# Altium footprint library SnapEDApcb.PcbLib: 1 footprints
Each footprint in its own frame and in the unit in brackets; x right, y up, seen from the top. Pads: shape width x height; smd on the part's side, far side on the other; paste and mask are expansions set on the pad; w line width, h text height; cw(c..) or ccw(c..) is an arc to the next point about the centre after c.
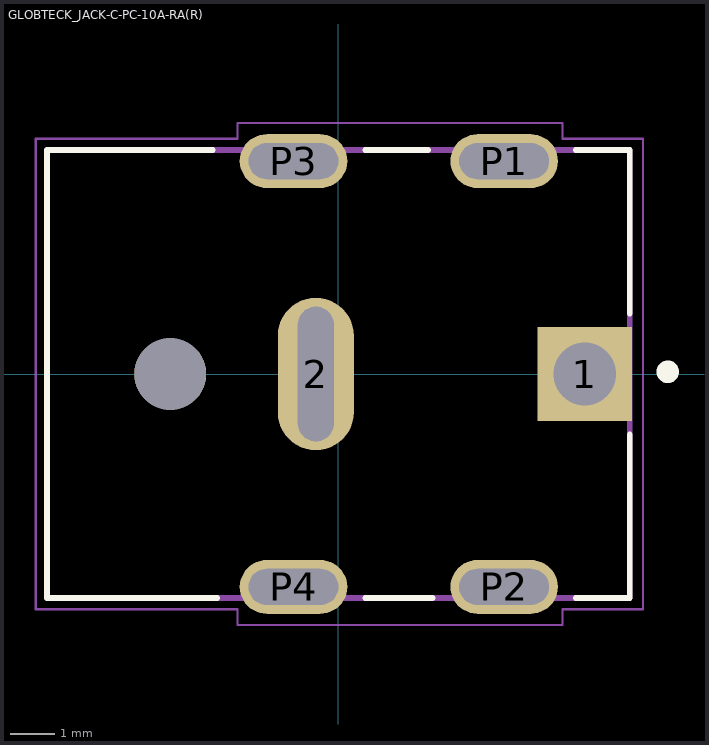
[diagram p0: the footprint, top view; thin cyan lines are the x and y axes]

## GLOBTECK_JACK-C-PC-10A-RA(R) [mm]
pads (7):
  rect 2.1x2.1 hole 1.4: 1(5.5,0)
  oval 1.7x3.4 hole 0.8 slot 3 at 90 deg: 2(-0.5,0)
  oval 2.4x1.2 hole 0.8 slot 2 at 0 deg: P1(3.7,4.75) P2(3.7,-4.75) P3(-1,4.75) P4(-1,-4.75)
  round 1.6 hole 1.6 unplated: ""(-3.75,0)
Top Overlay:
  circle w0.3: c7.35,0.05 r0.1
  lines w0.127: -2.8,5 -6.5,5 -6.5,-5 -2.7,-5 ; 0.6,-5 2.1,-5 ; 0.6,5 2,5 ; 5.3,-5 6.5,-5 6.5,-1.35 ; 5.3,5 6.5,5 6.5,1.35
Mechanical 13:
  lines w0.127: -6.5,-5 6.5,-5 6.5,5 -6.5,5 -6.5,-5
Mechanical 15:
  lines w0.05: -6.75,-5.25 -6.75,5.25 -2.25,5.25 -2.25,5.6 5,5.6 5,5.25 6.8,5.25 6.8,-5.25 5,-5.25 5,-5.6 -2.25,-5.6 -2.25,-5.25 -6.75,-5.25
3D body "JACK-C-PC-10A.STEP": height 10.08, standoff -2.12, extent -6.673,-5.085 6.477,5.085